# Altium schematic symbol library Capacitors.SchLib: 59 symbols
Pins are listed as number, name and electrical type; pins without a type are passive.

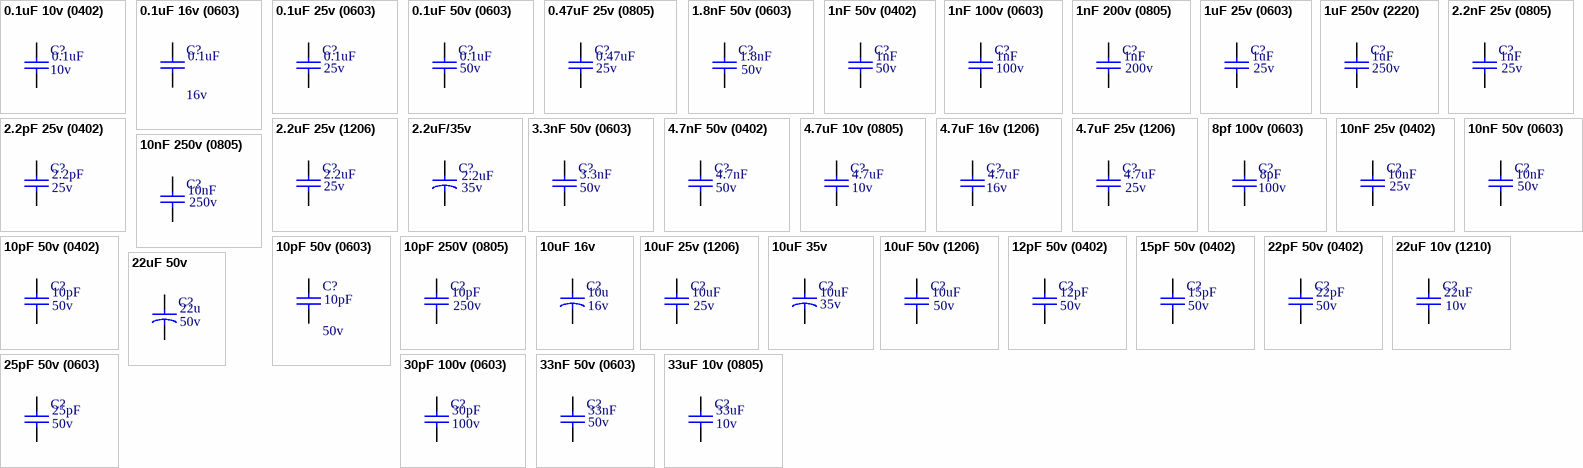
[diagram p0: symbols 0.1uF 10v (0402) to 33uF 10v (0805)]

## 0.1uF 10v (0402)
designator C?, comment Voltage: 10v  (hidden comment: 0.1uF)
Tolerance: 20%; MFG_PN: VJ0402G104MXQCW1BC; MFG: Vishay; LOAD: NL; Value: 0.1uF
footprint CAP0402R (Capacitor 0402 reflow soldering)
pins: 1, 2

## 0.1uF 16v (0603)
designator C?, comment Voltage: 16v  (hidden comment: 0.1uF)
MFG_PN: VJ0603Y104JXJPW1BC; MFG: Vishay; LOAD: NL; Value: 0.1uF
footprint CAP0603R (capacitor 0603 reflow soldering)
pins: 1, 2

## 0.1uF 25v (0603)
designator C?, comment Voltage: 25v  (hidden comment: 0.1uF)
MFG_PN: VJ0603Y104KXXCW1BC; MFG: Vishay; LOAD: NL; TEMP_MAX: 125C; Value: 0.1uF
footprint CAP0603R (capacitor 0603 reflow soldering)
pins: 1, 2

## 0.1uF 50v (0603)
designator C?, comment Voltage: 50v  (hidden comment: 0.1uF)
MFG_PN: VJ0603V104ZXAPW1BC; MFG: Vishay; LOAD: NL; Value: 0.1uF
footprint CAP0603R (capacitor 0603 reflow soldering)
pins: 1, 2

## 0.47uF 25v (0805)
designator C?, comment Voltage: 25v  (hidden comment: 0.47uF)
MFG_PN: VJ0805V474MXXCW1BC; MFG: Vishay; LOAD: NL; Value: 0.47uF
footprint CAP0805R (capacitor 0805 reflow soldering)
pins: 1, 2

## 1.8nF 50v (0603)
designator C?, comment Voltage: 50v  (hidden comment: 1.8nF)
Tolerance: 5%; MFG1_PN: VJ0603Y182JXAAC; MFG1: Vishay; Value: 1.8nF
footprint CAP0603R (capacitor 0603 reflow soldering)
pins: 1, 2

## 1nF 50v (0402)
designator C?, comment Voltage: 50v  (hidden comment: 1nF)
Tolerance: 10%; MFG_PN: VJ0402Y102KXAAC; MFG: Vishay; LOAD: NL; Value: 1nF
footprint CAP0402R (Capacitor 0402 reflow soldering)
pins: 1, 2

## 1nF 100v (0603)
designator C?, comment Voltage: 100v  (hidden comment: 1nF)
MFG_PN: VJ0603Y102KXBAC31; MFG: Vishay; LOAD: NL; Value: 1nF
footprint CAP0603R (capacitor 0603 reflow soldering)
pins: 1, 2

## 1nF 200v (0805)
designator C?, comment Voltage: 200v  (hidden comment: 1nF)
MFG_PN: VJ0805Y102KXCAC; MFG: Vishay; LOAD: NL; Value: 1nF
footprint CAP0805R (capacitor 0805 reflow soldering)
pins: 1, 2

## 1uF 25v (0603)
designator C?, comment Voltage: 25v  (hidden comment: 1uF)
MFG_PN: VJ0805V105ZXXTW1BC; MFG: Vishay; LOAD: NL; Value: 1uF
footprint CAP0603R (capacitor 0603 reflow soldering)
pins: 1, 2

## 1uF 250v (2220)
designator C?, comment Voltage: 250v  (hidden comment: 1uF)
Tolerance: 10%; MFG_PN: GRM55DR72E105KW01L; MFG: Murata; LOAD: NL; Value: 1uF
footprint CAP2220R (capacitor 2220 reflow soldering)
pins: 1, 2

## 2.2nF 25v (0805)
designator C?, comment Voltage: 25v  (hidden comment: 1nF)
Tolerance: 10%; MFG_PN: VJ0805A222KXXPW1BC; MFG: Vishay; LOAD: NL; Value: 1nF
footprint CAP0805R (capacitor 0805 reflow soldering)
pins: 1, 2

## 2.2pF 25v (0402)
designator C?, comment Voltage: 25v  (hidden comment: 2.2pF)
Tolerance: 10%; MFG_PN: VJ0402A2R2DXXCW1BC; MFG: Vishay; LOAD: NL; Value: 2.2pF
footprint CAP0402R (Capacitor 0402 reflow soldering)
pins: 1, 2

## 2.2uF 25v (1206)
designator C?, comment Voltage: 25v  (hidden comment: 2.2uF)
MFG1_PN: VJ1206V225ZXXRW1BC; MFG1: Vishay; Value: 2.2uF
footprint CAP1206R (capacitor 1206 reflow soldering)
pins: 1, 2

## 2.2uF/35v
designator C?, comment Voltage: 35v  (hidden comment: 2.2uF)
Tolerance: 20%; MFG1_PN: EEE-FC1V2R2AR; MFG1: PANASONIC; Value: 2.2uF
footprint SMD Elec Cap (5.5_5.4_4) (L=5.5mm, H=5.4mm, D=4mm)
pins: 1, 2

## 3.3nF 50v (0603)
designator C?, comment Voltage: 50v  (hidden comment: 3.3nF)
Tolerance: 20%; MFG1_PN: VJ0603Y332MXAPW1BC; MFG1: Vishay; Value: 3.3nF
footprint CAP0603R (capacitor 0603 reflow soldering)
pins: 1, 2

## 4.7nF 50v (0402)
designator C?, comment Voltage: 50v  (hidden comment: 4.7nF)
Tolerance: 10%; MFG_PN: VJ0402Y472KXACW1BC; MFG: Vishay; LOAD: NL; Value: 4.7nF
footprint CAP0402R (Capacitor 0402 reflow soldering)
pins: 1, 2

## 4.7uF 10v (0805)
designator C?, comment Voltage: 10v  (hidden comment: 4.7uF)
MFG_PN: VJ0805V475MXQTW1BC; MFG: Vishay; LOAD: NL; Value: 4.7uF
footprint CAP0805R (capacitor 0805 reflow soldering)
footprint CAP0805W (capacitor 0805 wave soldering)
pins: 1, 2

## 4.7uF 16v (1206)
designator C?, comment Voltage: 16v  (hidden comment: 4.7uF)
MFG1_PN: VJ1206V475ZXJTW1BC; MFG1: Vishay; Value: 4.7uF
footprint CAP1206R (capacitor 1206 reflow soldering)
pins: 1, 2

## 4.7uF 25v (1206)
designator C?, comment Voltage: 25v  (hidden comment: 4.7uF)
Tolerance: 10%; MFG_PN: GCM31CR71E475KA55L; MFG: Murata; LOAD: NL; Value: 4.7uF
footprint CAP1206R (capacitor 1206 reflow soldering)
footprint CAP1206W (capacitor 1206 wave soldering)
pins: 1, 2

## 8pf 100v (0603)
designator C?, comment Voltage: 100v  (hidden comment: 8pF)
MFG1_PN: 06031A8R0CAT2A; MFG1: AVX; Value: 8pF
footprint CAP0603R (capacitor 0603 reflow soldering)
pins: 1, 2

## 10nF 25v (0402)
designator C?, comment Voltage: 25v  (hidden comment: 10nF)
Tolerance: 5%; MFG_PN: VJ0402Y103JXXAC; MFG: Vishay; LOAD: NL; Value: 10nF
footprint CAP0402R (Capacitor 0402 reflow soldering)
pins: 1, 2

## 10nF 50v (0603)
designator C?, comment Voltage: 50v  (hidden comment: 10nF)
MFG1_PN: VJ0603Y103KXAAC; MFG1: Vishay; Value: 10nF
footprint CAP0603R (capacitor 0603 reflow soldering)
pins: 1, 2

## 10nF 250v (0805)
designator C?, comment Voltage: 250v  (hidden comment: 10nF)
Tolerance: 10%; MFG_PN: GRM21BR72E103KW03L; MFG: Murata; LOAD: NL; Value: 10nF
footprint CAP0805R (capacitor 0805 reflow soldering)
pins: 1, 2

## 10pF 50v (0402)
designator C?, comment Voltage: 50v  (hidden comment: 10pF)
Tolerance: 10%; MFG_PN: VJ0402Y100KXACW1BC; MFG: Vishay; LOAD: NL; Value: 10pF
footprint CAP0402R (Capacitor 0402 reflow soldering)
pins: 1, 2

## 10pF 50v (0603)
designator C?, comment Voltage: 50v  (hidden comment: 10pF)
Tolerance: 1%; MFG_PN: VJ0603A100FXACW1BC; MFG: VISHAY; LOAD: NL; Value: 10pF
footprint CAP0603R (capacitor 0603 reflow soldering)
pins: 1, 2

## 10pF 250V (0805)
designator C?, comment Voltage: 250v  (hidden comment: 10pF)
Tolerance: 5%; MFG_PN: GQM2195C2E100JB12D; MFG: Murata; LOAD: NL; Value: 10pF
footprint CAP0805R (capacitor 0805 reflow soldering)
pins: 1, 2

## 10uF 16v
designator C?, comment Voltage: 16v  (hidden comment: 10u)
Tolerance: 20%; MFG_PN: EEE-FK1C100R; MFG: Panasonic; LOAD: NL; Value: 10u
footprint SMD Elec Cap (5.8_5.8_4) (L=5.8mm, H=5.8mm, D=4mm)
pins: 1, 2

## 10uF 25v (1206)
designator C?, comment Voltage: 25v  (hidden comment: 10uF)
Tolerance: 10%; MFG_PN: GRJ31CR71E106KE11L; MFG: MURATA; LOAD: NL; Value: 10uF
footprint CAP1206R (capacitor 1206 reflow soldering)
pins: 1, 2

## 10uF 35v
designator C?, comment Voltage: 35v  (hidden comment: 10uF)
MFG1_PN: EEE-HB1V100R; MFG1: Panasonic; Value: 10uF
footprint SMD Elec Cap (5.5_6.5_5) (L=5.5mm, H=6.5mm, D=5mm)
pins: 1, 2

## 10uF 50v (1206)
designator C?, comment Voltage: 50v  (hidden comment: 10uF)
Tolerance: 10%; MFG_PN: C3216X5R1H106K160AB; MFG: TDK; LOAD: NL; Value: 10uF
footprint CAP1206R (capacitor 1206 reflow soldering)
pins: 1, 2

## 12pF 50v (0402)
designator C?, comment Voltage: 50v  (hidden comment: 12pF)
Tolerance: 5%; MFG_PN: GRM1555C1H120JA01D; MFG: Murata; LOAD: NL; Value: 12pF
footprint CAP0402R (Capacitor 0402 reflow soldering)
pins: 1, 2

## 15pF 50v (0402)
designator C?, comment Voltage: 50v  (hidden comment: 15pF)
Tolerance: 5%; MFG_PN: VJ0402A150JXACW1BC; MFG: Vishay; LOAD: NL; Value: 15pF
footprint CAP0402R (Capacitor 0402 reflow soldering)
pins: 1, 2

## 22pF 50v (0402)
designator C?, comment Voltage: 50v  (hidden comment: 22pF)
Tolerance: 5%; MFG_PN: 04025A220JAT2A; MFG: AVX; LOAD: NL; Value: 22pF
footprint CAP0402R (Capacitor 0402 reflow soldering)
pins: 1, 2

## 22uF 10v (1210)
designator C?, comment Voltage: 10v  (hidden comment: 22uF)
Tolerance: 10%; MFG_PN: GCM32ER71A226ME12L; MFG: MURATA; LOAD: NL; Value: 22uF
footprint CAP1210R (capacitor 1210 reflow soldering)
pins: 1, 2

## 22uF 50v
designator C?, comment Voltage: 50v  (hidden comment: 22u)
MFG1_PN: EEE-FK1H220P; MFG1: Panasonic; Value: 22u
footprint SMD Elec Cap (5.8_5.8_6.3) (L=5.8mm, H=5.8mm, D=6.3mm)
pins: 1, 2

## 25pF 50v (0603)
designator C?, comment Voltage: 50v  (hidden comment: 25pF)
Tolerance: 2%; MFG_PN: 06035A250GAT2A; MFG: AVX; LOAD: NL; Value: 25pF
footprint CAP0603R (capacitor 0603 reflow soldering)
pins: 1, 2

## 30pF 100v (0603)
designator C?, comment Voltage: 100v  (hidden comment: 30pF)
MFG1_PN: VJ0805A300JXBAT; MFG1: Vishay; Value: 30pF
footprint CAP0603R (capacitor 0603 reflow soldering)
pins: 1, 2

## 33nF 50v (0603)
designator C?, comment Voltage: 50v  (hidden comment: 33nF)
Tolerance: 5%; MFG1_PN: VJ0603Y333KXACW1BC; MFG1: Vishay; Value: 33nF
footprint CAP0603R (capacitor 0603 reflow soldering)
pins: 1, 2

## 33uF 10v (0805)
designator C?, comment Voltage: 10v  (hidden comment: 33uF)
MFG_PN: C2012X5R1A336M125AC; MFG: TDK; LOAD: NL; Value: 33uF
footprint CAP0805R (capacitor 0805 reflow soldering)
pins: 1, 2

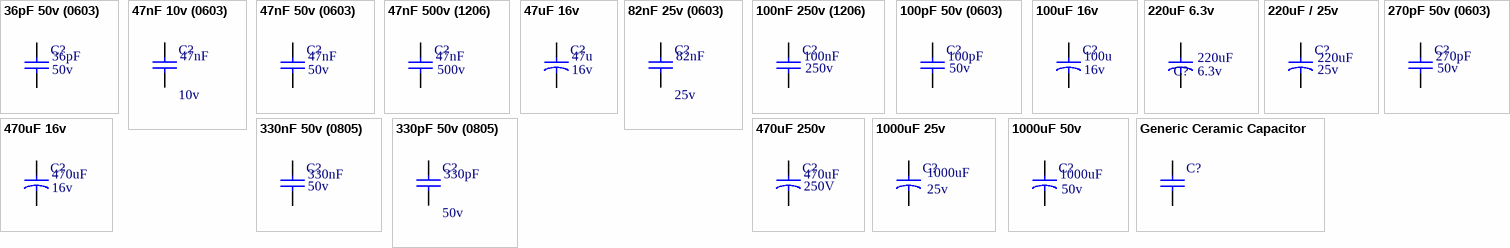
[diagram p1: symbols 36pF 50v (0603) to Generic Ceramic Capacitor]

## 36pF 50v (0603)
designator C?, comment Voltage: 50v  (hidden comment: 36pF)
Tolerance: 2%; MFG_PN: GRM0335C1H360GA01D; MFG: MURATA; LOAD: NL; Value: 36pF
footprint CAP0603R (capacitor 0603 reflow soldering)
pins: 1, 2

## 47nF 10v (0603)
designator C?, comment Voltage: 10v  (hidden comment: 47nF)
MFG_PN: VJ0603Y473JXQPW1BC; MFG: Vishay; LOAD: NL; Value: 47nF
footprint CAP0603R (capacitor 0603 reflow soldering)
pins: 1, 2

## 47nF 50v (0603)
designator C?, comment Voltage: 50v  (hidden comment: 47nF)
Tolerance: 10%; MFG_PN: VJ0603Y473KXACW1BC; MFG: VISHAY; Value: 47nF
footprint CAP0603R (capacitor 0603 reflow soldering)
pins: 1, 2

## 47nF 500v (1206)
designator C?, comment Voltage: 500v  (hidden comment: 47nF)
Tolerance: 10%; MFG_PN: VJ1206Y473KXEAT5Z; MFG: Vishay; LOAD: NL; Value: 47nF
footprint CAP1206R (capacitor 1206 reflow soldering)
footprint CAP1206W (capacitor 1206 wave soldering)
pins: 1, 2

## 47uF 16v
designator C?, comment Voltage: 16v  (hidden comment: 47u)
MFG1_PN: EEE-FK1C470P; MFG1: Panasonic; Value: 47u
footprint SMD Elec Cap (5.8_5.8_6.3) (L=5.8mm, H=5.8mm, D=6.3mm)
pins: 1, 2

## 82nF 25v (0603)
designator C?, comment Voltage: 25v  (hidden comment: 82nF)
Tolerance: 5%; MFG1_PN: VJ0805Y823JXXPW1BC; MFG1: Vishay; Value: 82nF
footprint CAP0603R (capacitor 0603 reflow soldering)
pins: 1, 2

## 100nF 250v (1206)
designator C?, comment Voltage: 250v  (hidden comment: 100nF)
Tolerance: 10%; MFG_PN: GRM31CR72E104KW03L; MFG: Murata; LOAD: NL; Value: 100nF
footprint CAP1206R (capacitor 1206 reflow soldering)
pins: 1, 2

## 100pF 50v (0603)
designator C?, comment Voltage: 50v  (hidden comment: 100pF)
MFG1_PN: VJ0603A101JNAAO; MFG1: Vishay; Value: 100pF
footprint CAP0603R (capacitor 0603 reflow soldering)
pins: 1, 2

## 100uF 16v
designator C?, comment Voltage: 16v  (hidden comment: 100u)
MFG1_PN: EEE-1CA101WP; MFG1: Panasonic; Value: 100u
footprint SMD Elec Cap (5.5_5.4_6.3) (L=5.5mm, H=5.4mm, D=6.3mm)
pins: 1, 2

## 220uF 6.3v
designator C?, comment value 220uF  Voltage: 6.3v  (hidden comment: EEE-0JA221WP)
MFG: Panasonic; MFG_PN: EEE-0JA221WP
footprint SMD Elec Cap (5.5_5.4_6.3) (L=5.5mm, H=5.4mm, D=6.3mm)
pins: 1, 2

## 220uF / 25v
designator C?, comment Voltage: 25v  (hidden comment: 220uF)
Tolerance: 20%; MFG_PN: EEE-FTE221XAP; MFG: PANASONIC; ESR: 160mohm; LOAD: NL; Value: 220uF
footprint SMD ELEC CAP (D=6.3, L=7.7, H=8)
pins: 1, 2

## 270pF 50v (0603)
designator C?, comment Voltage: 50v  (hidden comment: 270pF)
Tolerance: 5%; MFG_PN: VJ0603A271JXACW1BC; MFG: Vishay; LOAD: NL; Value: 270pF
footprint CAP0603R (capacitor 0603 reflow soldering)
pins: 1, 2

## 330nF 50v (0805)
designator C?, comment Voltage: 50v  (hidden comment: 330nF)
MFG1_PN: VJ0805V334ZXAPW1BC; MFG1: Vishay; Value: 330nF
footprint CAP0805R (capacitor 0805 reflow soldering)
pins: 1, 2

## 330pF 50v (0805)
designator C?, comment Voltage: 50v  (hidden comment: 330pF)
Tolerance: 5%; MFG1_PN: VJ0805A331JXACW1BC; MFG1: Vishay; Value: 330pF
footprint CAP0805R (capacitor 0805 reflow soldering)
pins: 1, 2

## 470uF 16v
designator C?, comment Voltage: 16v  (hidden comment: 470uF)
Tolerance: 20%; MFG_PN: EEE-FP1C471AP; MFG: Panasonic; LOAD: NL; Value: 470uF
footprint SMD Elec Cap (10.5_10.2_8) (L=10.5mm, H=10.2mm, D=8mm)
pins: 1, 2

## 470uF 250v
designator C?, comment Voltage: 250V  (hidden comment: 470uF)
MFG1_PN: LLS2E471MELB; MFG1: Nichicon; Value: 470uF
footprint Elec. Cap. TH (THrough-hole (D=30mm, L=25mm, LS=10mm))
pins: 1, 2

## 1000uF 25v
designator C?, comment Voltage: 25v  (hidden comment: 1000uF)
Tolerance: 20%; MFG1_PN: EEV-FK1E102Q; MFG1: PANASONIC; Value: 1000uF
footprint SMD Elec Cap (13.5_15_12.5) (L=13.5mm, H=15mm, D=12.5mm)
pins: 1, 2

## 1000uF 50v
designator C?, comment Voltage: 50v  (hidden comment: 1000uF)
MFG1_PN: EEV-FK1H102M; MFG1: Panasonic; Value: 1000uF
footprint SMD Elec Cap (17_16.5_16) (L=17mm, H=16.5mm, D=16mm)
pins: 1, 2

## Generic Ceramic Capacitor
designator C?
MFG1: Vishay; LOAD: NL
pins: 1, 2